# Altium schematic symbol library PicoBlade.SchLib: 6 symbols
Pins are listed as number, name and electrical type; pins without a type are passive.

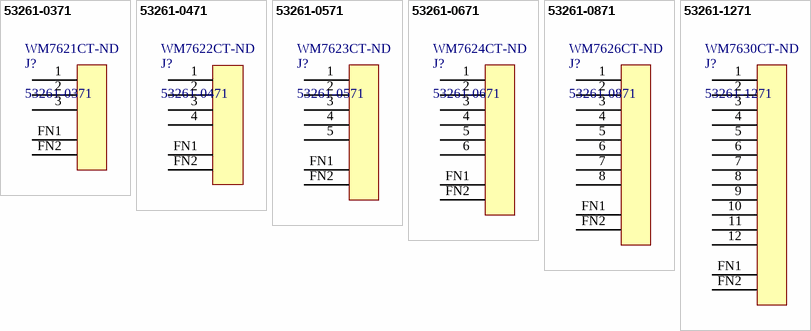
[diagram p0: symbols 53261-0371 to 53261-1271]

## 53261-0371
designator J?  Supplier Part Number 1: WM7621CT-ND
Molex PicoBlade CONN HEADER 3POS 1.25MM; Supplier 1: Digi-Key
footprint 53261-0371
pins: 1, 2, 3, FN1, FN2

## 53261-0471
designator J?  Supplier Part Number 1: WM7622CT-ND
Molex PicoBlade CONN HEADER 4POS 1.25MM; Supplier 1: Digi-Key
footprint 53261-0471
pins: 1, 2, 3, 4, FN1, FN2

## 53261-0571
designator J?  Supplier Part Number 1: WM7623CT-ND
Molex PicoBlade CONN HEADER 5POS 1.25MM; Supplier 1: Digi-Key
footprint 53261-0571
pins: 1, 2, 3, 4, 5, FN1, FN2

## 53261-0671
designator J?  Supplier Part Number 1: WM7624CT-ND
Molex PicoBlade CONN HEADER 6POS 1.25MM; Supplier 1: Digi-Key
footprint 53261-0671
pins: 1, 2, 3, 4, 5, 6, FN1, FN2

## 53261-0871
designator J?  Supplier Part Number 1: WM7626CT-ND
Molex PicoBlade CONN HEADER 8POS 1.25MM; Supplier 1: Digi-Key
footprint 53261-0871
pins: 1, 2, 3, 4, 5, 6, 7, 8, FN1, FN2

## 53261-1271
designator J?  Supplier Part Number 1: WM7630CT-ND
Molex PicoBlade CONN HEADER 12POS 1.25MM; Supplier 1: Digi-Key
footprint 53261-1271
pins: 1, 2, 3, 4, 5, 6, 7, 8, 9, 10, 11, 12, FN1, FN2